# Altium footprint library Трансформаторы импульсные (открытого исполения).PcbLib: 55 footprints (part 1 of 4)
Each footprint in its own frame and in the unit in brackets; x right, y up, seen from the top. Pads: shape width x height; smd on the part's side, far side on the other; paste and mask are expansions set on the pad; w line width, h text height; cw(c..) or ccw(c..) is an arc to the next point about the centre after c.
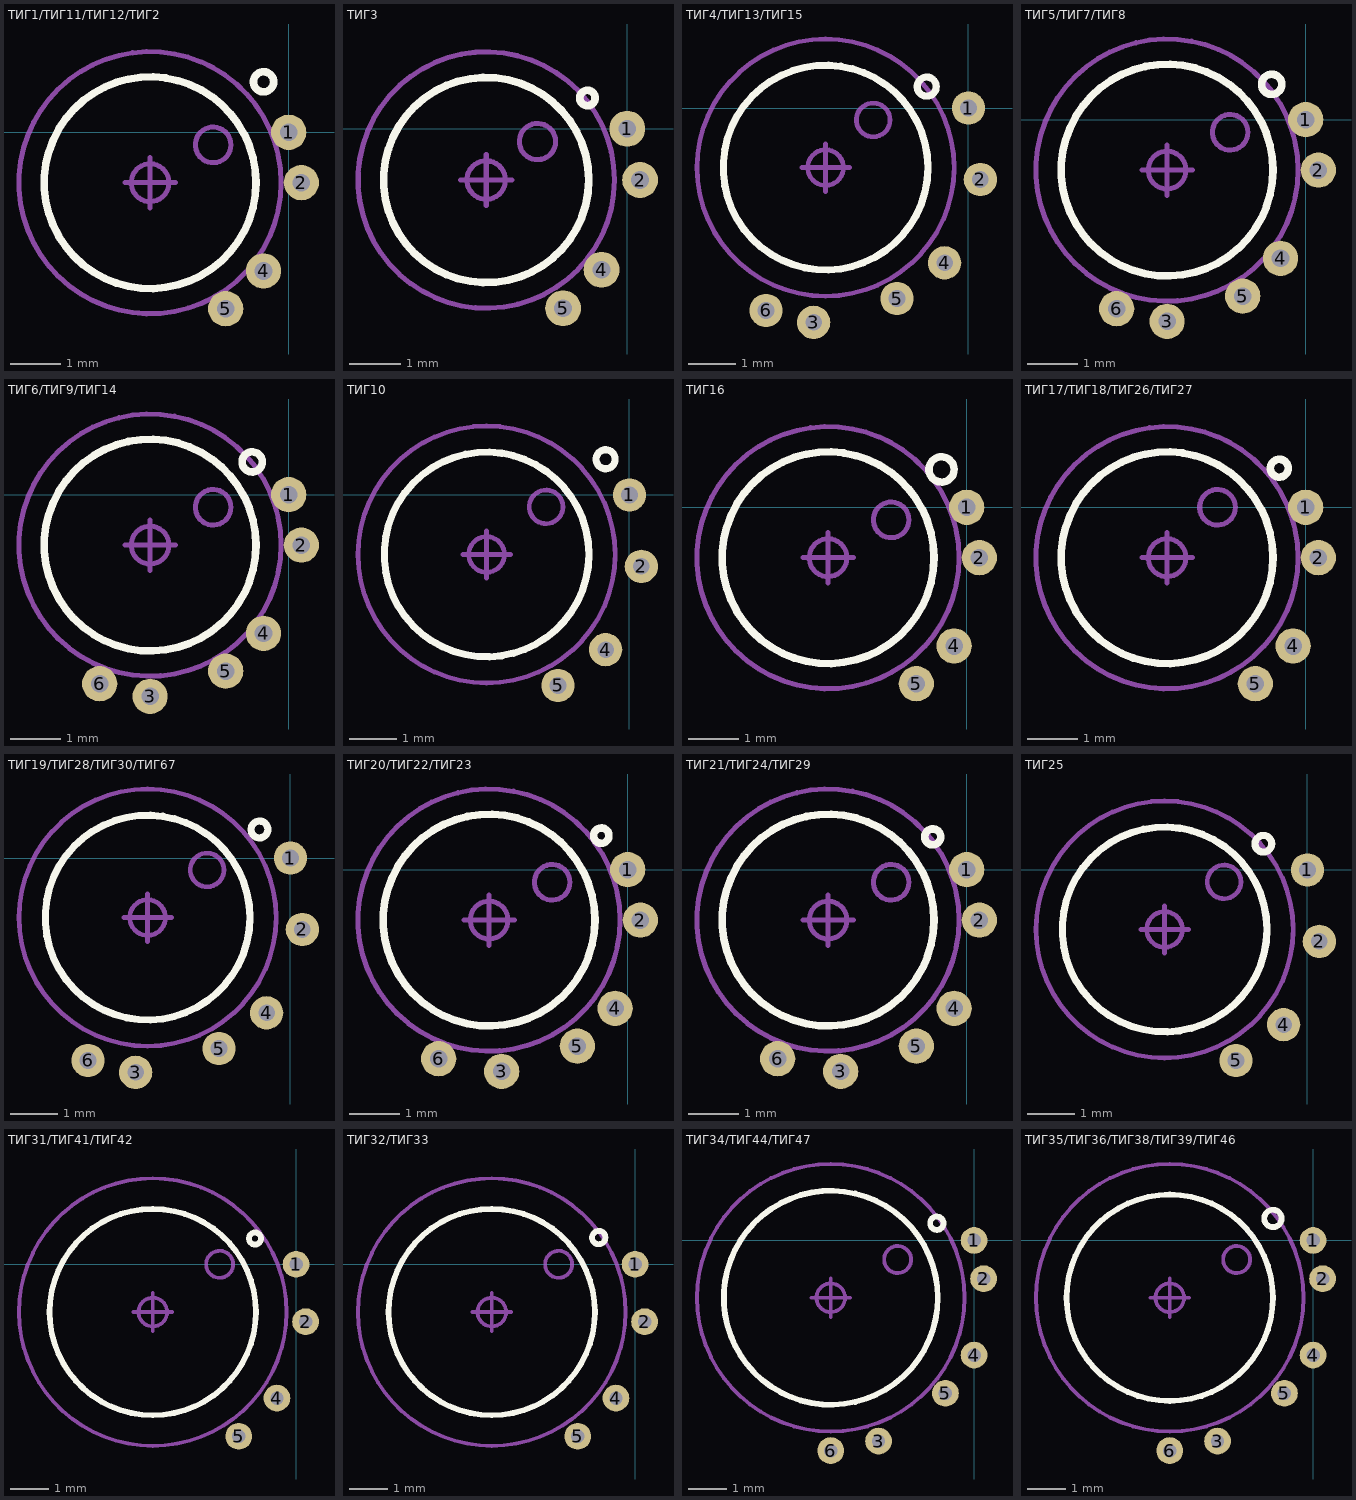
[diagram p0: the footprints below, top view; thin cyan lines are the x and y axes]

## ТИГ1/ТИГ11/ТИГ12/ТИГ2 [mm] "4,2x4,2x1,8, 0.05g"
height 1.8
pads (4):
  round 0.7 hole 0.35: 1(0,0) 2(0.25,-1) 4(-0.5,-2.75) 5(-1.25,-3.5)
Top Overlay:
  circle w0.15: c-2.75,-1 r2.1
  circle w0.15: c-0.5,1 r0.2
Top Assembly:
  circle w0.1: c-2.75,-1 r2.1
  circle w0.1: c-1.5,-0.25 r0.354
Top Courtyard (Mech15):
  circle w0.1: c-2.75,-1 r0.375
  circle w0.1: c-2.75,-1 r2.6
  lines w0.1: -3.25,-1 -2.25,-1 ; -2.75,-1.5 -2.75,-0.5
3D body: height 0.25, standoff 0, extent -2.75,-1 -2.75,-1
3D body: height 0.25, standoff 0, extent -10.5,-5 -10.5,-5

## ТИГ3 [mm] "4x4x1.6, 0.05g"
height 1.6
pads (4):
  round 0.7 hole 0.35: 1(0,0) 2(0.25,-1) 4(-0.5,-2.75) 5(-1.25,-3.5)
Top Overlay:
  circle w0.15: c-0.775,0.6 r0.15
  circle w0.15: c-2.75,-1 r2
Top Assembly:
  circle w0.1: c-1.75,-0.25 r0.354
  circle w0.1: c-2.75,-1 r2
Top Courtyard (Mech15):
  circle w0.1: c-2.75,-1 r0.375
  circle w0.1: c-2.75,-1 r2.5
  lines w0.1: -3.25,-1 -2.25,-1 ; -2.75,-1.5 -2.75,-0.5
3D body: height 0.25, standoff 0, extent -2.75,-1 -2.75,-1
3D body: height 0.25, standoff 0, extent -10.5,-5 -10.5,-5

## ТИГ4/ТИГ13/ТИГ15 [mm] "4,3x4,3x2,0, 0.06g"
height 2
pads (6):
  round 0.7 hole 0.35: 1(0,0) 2(0.25,-1.5) 3(-3.25,-4.5) 4(-0.5,-3.25) 5(-1.5,-4) 6(-4.25,-4.25)
Top Overlay:
  circle w0.15: c-0.875,0.45 r0.2
  circle w0.15: c-3,-1.25 r2.15
Top Assembly:
  circle w0.1: c-2,-0.25 r0.354
  circle w0.1: c-3,-1.25 r2.15
Top Courtyard (Mech15):
  circle w0.1: c-3,-1.25 r0.375
  circle w0.1: c-3,-1.25 r2.7
  lines w0.1: -3.5,-1.25 -2.5,-1.25 ; -3,-1.75 -3,-0.75
3D body: height 0.25, standoff 0, extent -3,-1.25 -3,-1.25
3D body: height 0.25, standoff 0, extent -10.75,-5.25 -10.75,-5.25

## ТИГ5/ТИГ7/ТИГ8 [mm] "4,2x4,2x1,8, 0.05g"
height 1.8
pads (6):
  round 0.7 hole 0.35: 1(0,0) 2(0.25,-1) 3(-2.75,-4) 4(-0.5,-2.75) 5(-1.25,-3.5) 6(-3.75,-3.75)
Top Overlay:
  circle w0.15: c-2.75,-1 r2.1
  circle w0.15: c-0.675,0.7 r0.2
Top Assembly:
  circle w0.1: c-2.75,-1 r2.1
  circle w0.1: c-1.5,-0.25 r0.354
Top Courtyard (Mech15):
  circle w0.1: c-2.75,-1 r0.375
  circle w0.1: c-2.75,-1 r2.6
  lines w0.1: -3.25,-1 -2.25,-1 ; -2.75,-1.5 -2.75,-0.5
3D body: height 0.25, standoff 0, extent -2.75,-1 -2.75,-1
3D body: height 0.25, standoff 0, extent -10.5,-5 -10.5,-5

## ТИГ6/ТИГ9/ТИГ14 [mm] "4,2x4,2x2,0, 0.06g"
height 2
pads (6):
  round 0.7 hole 0.35: 1(0,0) 2(0.25,-1) 3(-2.75,-4) 4(-0.5,-2.75) 5(-1.25,-3.5) 6(-3.75,-3.75)
Top Overlay:
  circle w0.15: c-0.725,0.65 r0.2
  circle w0.15: c-2.75,-1 r2.1
Top Assembly:
  circle w0.1: c-1.5,-0.25 r0.354
  circle w0.1: c-2.75,-1 r2.1
Top Courtyard (Mech15):
  circle w0.1: c-2.75,-1 r2.6
  circle w0.1: c-2.75,-1 r0.375
  lines w0.1: -3.25,-1 -2.25,-1 ; -2.75,-1.5 -2.75,-0.5
3D body: height 0.25, standoff 0, extent -10.5,-5 -10.5,-5
3D body: height 0.25, standoff 0, extent -2.75,-1 -2.75,-1

## ТИГ10 [mm] "4,3x4,3x2,0, 0.06g"
height 2
pads (4):
  round 0.7 hole 0.35: 1(0,0) 2(0.25,-1.5) 4(-0.5,-3.25) 5(-1.5,-4)
Top Overlay:
  circle w0.15: c-0.5,0.75 r0.2
  circle w0.15: c-3,-1.25 r2.15
Top Assembly:
  circle w0.1: c-1.75,-0.25 r0.354
  circle w0.1: c-3,-1.25 r2.15
Top Courtyard (Mech15):
  circle w0.1: c-3,-1.25 r2.7
  circle w0.1: c-3,-1.25 r0.375
  lines w0.1: -3.5,-1.25 -2.5,-1.25 ; -3,-1.75 -3,-0.75
3D body: height 0.25, standoff 0, extent -10.75,-5.25 -10.75,-5.25
3D body: height 0.25, standoff 0, extent -3,-1.25 -3,-1.25

## ТИГ16 [mm] "4,2x4,2x2,1, 0.06g"
height 2.1
pads (4):
  round 0.7 hole 0.35: 1(0,0) 2(0.25,-1) 4(-0.25,-2.75) 5(-1,-3.5)
Top Overlay:
  circle w0.15: c-0.5,0.75 r0.25
  circle w0.15: c-2.75,-1 r2.1
Top Assembly:
  circle w0.1: c-1.5,-0.25 r0.354
  circle w0.1: c-2.75,-1 r2.1
Top Courtyard (Mech15):
  circle w0.1: c-2.75,-1 r0.375
  circle w0.1: c-2.75,-1 r2.6
  lines w0.1: -3.25,-1 -2.25,-1 ; -2.75,-1.5 -2.75,-0.5
3D body: height 0.25, standoff 0, extent -2.75,-1 -2.75,-1
3D body: height 0.25, standoff 0, extent -10.5,-5 -10.5,-5

## ТИГ17/ТИГ18/ТИГ26/ТИГ27 [mm] "4,2x4,2x2,1, 0.06g"
height 2.1
pads (4):
  round 0.7 hole 0.35: 1(0,0) 2(0.25,-1) 4(-0.25,-2.75) 5(-1,-3.5)
Top Overlay:
  circle w0.15: c-0.525,0.775 r0.177
  circle w0.15: c-2.75,-1 r2.1
Top Assembly:
  circle w0.1: c-1.75,0 r0.354
  circle w0.1: c-2.75,-1 r2.1
Top Courtyard (Mech15):
  circle w0.1: c-2.75,-1 r0.375
  circle w0.1: c-2.75,-1 r2.6
  lines w0.1: -3.25,-1 -2.25,-1 ; -2.75,-1.5 -2.75,-0.5
3D body: height 0.25, standoff 0, extent -2.75,-1 -2.75,-1
3D body: height 0.25, standoff 0, extent -10.5,-5 -10.5,-5

## ТИГ19/ТИГ28/ТИГ30/ТИГ67 [mm] "4,3x4,3x2,3, 0.08g"
height 2.3
pads (6):
  round 0.7 hole 0.35: 1(0,0) 2(0.25,-1.5) 3(-3.25,-4.5) 4(-0.5,-3.25) 5(-1.5,-4) 6(-4.25,-4.25)
Top Overlay:
  circle w0.15: c-0.65,0.6 r0.177
  circle w0.15: c-3,-1.25 r2.15
Top Assembly:
  circle w0.1: c-1.75,-0.25 r0.354
  circle w0.1: c-3,-1.25 r2.15
Top Courtyard (Mech15):
  circle w0.1: c-3,-1.25 r2.7
  circle w0.1: c-3,-1.25 r0.375
  lines w0.1: -3.5,-1.25 -2.5,-1.25 ; -3,-1.75 -3,-0.75
3D body: height 0.25, standoff 0, extent -10.75,-5.25 -10.75,-5.25
3D body: height 0.25, standoff 0, extent -3,-1.25 -3,-1.25

## ТИГ20/ТИГ22/ТИГ23 [mm] "4,2x4,2x2,1, 0.06g"
height 2.1
pads (6):
  round 0.7 hole 0.35: 1(0,0) 2(0.25,-1) 3(-2.5,-4) 4(-0.25,-2.75) 5(-1,-3.5) 6(-3.75,-3.75)
Top Overlay:
  circle w0.15: c-0.525,0.675 r0.152
  circle w0.15: c-2.75,-1 r2.1
Top Assembly:
  circle w0.1: c-1.5,-0.25 r0.354
  circle w0.1: c-2.75,-1 r2.1
Top Courtyard (Mech15):
  circle w0.1: c-2.75,-1 r0.375
  circle w0.1: c-2.75,-1 r2.6
  lines w0.1: -3.25,-1 -2.25,-1 ; -2.75,-1.5 -2.75,-0.5
3D body: height 0.25, standoff 0, extent -2.75,-1 -2.75,-1
3D body: height 0.25, standoff 0, extent -10.5,-5 -10.5,-5

## ТИГ21/ТИГ24/ТИГ29 [mm] "4,2x4,2x2,2, 0.08g"
height 2.2
pads (6):
  round 0.7 hole 0.35: 1(0,0) 2(0.25,-1) 3(-2.5,-4) 4(-0.25,-2.75) 5(-1,-3.5) 6(-3.75,-3.75)
Top Overlay:
  circle w0.15: c-0.675,0.65 r0.158
  circle w0.15: c-2.75,-1 r2.1
Top Assembly:
  circle w0.1: c-1.5,-0.25 r0.354
  circle w0.1: c-2.75,-1 r2.1
Top Courtyard (Mech15):
  circle w0.1: c-2.75,-1 r0.375
  circle w0.1: c-2.75,-1 r2.6
  lines w0.1: -3.25,-1 -2.25,-1 ; -2.75,-1.5 -2.75,-0.5
3D body: height 0.25, standoff 0, extent -2.75,-1 -2.75,-1
3D body: height 0.25, standoff 0, extent -10.5,-5 -10.5,-5

## ТИГ25 [mm] "4,3x4,3x2,3, 0.08g"
height 2.3
pads (4):
  round 0.7 hole 0.35: 1(0,0) 2(0.25,-1.5) 4(-0.5,-3.25) 5(-1.5,-4)
Top Overlay:
  circle w0.15: c-3,-1.25 r2.15
  circle w0.15: c-0.925,0.55 r0.175
Top Assembly:
  circle w0.1: c-3,-1.25 r2.15
  circle w0.1: c-1.75,-0.25 r0.354
Top Courtyard (Mech15):
  circle w0.1: c-3,-1.25 r0.375
  circle w0.1: c-3,-1.25 r2.7
  lines w0.1: -3.5,-1.25 -2.5,-1.25 ; -3,-1.75 -3,-0.75
3D body: height 0.25, standoff 0, extent -3,-1.25 -3,-1.25
3D body: height 0.25, standoff 0, extent -10.75,-5.25 -10.75,-5.25

## ТИГ31/ТИГ41/ТИГ42 [mm] "5,4x5,4x2,4, 0.12g"
height 2.4
pads (4):
  round 0.7 hole 0.35: 1(0,0) 2(0.25,-1.5) 4(-0.5,-3.5) 5(-1.5,-4.5)
Top Overlay:
  circle w0.15: c-3.75,-1.25 r2.7
  circle w0.15: c-1.075,0.675 r0.158
Top Assembly:
  circle w0.1: c-3.75,-1.25 r2.7
  circle w0.1: c-2,0 r0.354
Top Courtyard (Mech15):
  circle w0.1: c-3.75,-1.25 r0.375
  circle w0.1: c-3.75,-1.25 r3.5
  lines w0.1: -4.25,-1.25 -3.25,-1.25 ; -3.75,-1.75 -3.75,-0.75
3D body: height 0.25, standoff 0, extent -3.75,-1.25 -3.75,-1.25
3D body: height 0.25, standoff 0, extent -11.5,-5.25 -11.5,-5.25

## ТИГ32/ТИГ33 [mm] "5,4x5,4x2,2, 0.12g"
height 2.2
pads (4):
  round 0.7 hole 0.35: 1(0,0) 2(0.25,-1.5) 4(-0.5,-3.5) 5(-1.5,-4.5)
Top Overlay:
  circle w0.15: c-3.75,-1.25 r2.7
  circle w0.15: c-0.95,0.7 r0.175
Top Assembly:
  circle w0.1: c-3.75,-1.25 r2.7
  circle w0.1: c-2,0 r0.354
Top Courtyard (Mech15):
  circle w0.1: c-3.75,-1.25 r0.375
  circle w0.1: c-3.75,-1.25 r3.5
  lines w0.1: -4.25,-1.25 -3.25,-1.25 ; -3.75,-1.75 -3.75,-0.75
3D body: height 0.25, standoff 0, extent -3.75,-1.25 -3.75,-1.25
3D body: height 0.25, standoff 0, extent -11.5,-5.25 -11.5,-5.25

## ТИГ34/ТИГ44/ТИГ47 [mm] "5,6x5,6x2,5, 0.12g"
height 2.5
pads (6):
  round 0.7 hole 0.35: 1(0,0) 2(0.25,-1) 3(-2.5,-5.25) 4(0,-3) 5(-0.75,-4) 6(-3.75,-5.5)
Top Overlay:
  circle w0.15: c-3.75,-1.5 r2.8
  circle w0.15: c-0.975,0.45 r0.175
Top Assembly:
  circle w0.1: c-3.75,-1.5 r2.8
  circle w0.1: c-2,-0.5 r0.354
Top Courtyard (Mech15):
  circle w0.1: c-3.75,-1.5 r0.375
  circle w0.1: c-3.75,-1.5 r3.5
  lines w0.1: -4.25,-1.5 -3.25,-1.5 ; -3.75,-2 -3.75,-1
3D body: height 0.25, standoff 0, extent -3.75,-1.5 -3.75,-1.5
3D body: height 0.25, standoff 0, extent -11.5,-5.5 -11.5,-5.5

## ТИГ35/ТИГ36/ТИГ38/ТИГ39/ТИГ46 [mm] "5,4x5,4x2,4, 0.12g"
height 2.4
pads (6):
  round 0.7 hole 0.35: 1(0,0) 2(0.25,-1) 3(-2.5,-5.25) 4(0,-3) 5(-0.75,-4) 6(-3.75,-5.5)
Top Overlay:
  circle w0.15: c-3.75,-1.5 r2.7
  circle w0.15: c-1.05,0.575 r0.226
Top Assembly:
  circle w0.1: c-3.75,-1.5 r2.7
  circle w0.1: c-2,-0.5 r0.354
Top Courtyard (Mech15):
  circle w0.1: c-3.75,-1.5 r0.375
  circle w0.1: c-3.75,-1.5 r3.5
  lines w0.1: -4.25,-1.5 -3.25,-1.5 ; -3.75,-2 -3.75,-1
3D body: height 0.25, standoff 0, extent -3.75,-1.5 -3.75,-1.5
3D body: height 0.25, standoff 0, extent -11.5,-5.5 -11.5,-5.5